# EAGLE library part PIC16F1454-I_SL (library SamacSys_Parts)
Microchip PIC16F1454-I/SL, 8bit PIC Microcontroller, 48MHz, 14 kB Flash, 14-Pin SOIC Source: Datasheet <https://datasheet.datasheetarchive.com/originals/distributors/Datasheets-DGA25/1726631.pdf>
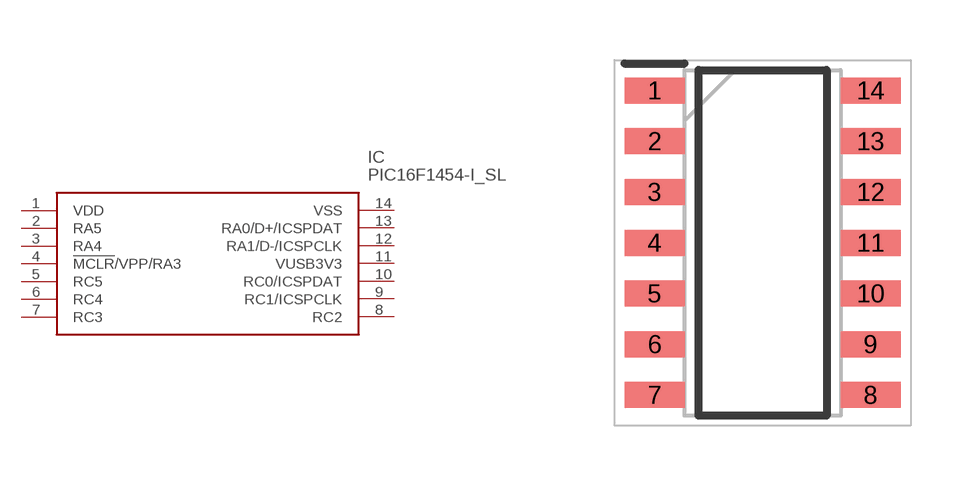
[diagram p80: symbol with the pads of SOIC127P600X175-14N; footprint SOIC127P600X175-14N]

Designator prefix IC

## PIC16F1454-I_SL (DESCRIPTION: Microchip PIC16F1454-I/SL, 8bit PIC Microcontroller, 48MHz, 14 kB Flash, 14-Pin SOIC; HEIGHT: 1.75mm; MANUFACTURER_NAME: Microchip; MANUFACTURER_PART_NUMBER: PIC16F1454-I/SL; MOUSER_PART_NUMBER: 579-PIC16F1454-I/SL; MOUSER_PRICE-STOCK: https://www.mouser.co.uk/ProductDetail/Microchip-Technology/PIC16F1454-I-SL?qs=ad%2F6A%2FMquwJC%2FYz9dG%252BKZg%3D%3D)  [SOIC127P600X175-14N]
1  VDD
2  RA5
3  RA4
4  !MCLR!/VPP/RA3
5  RC5
6  RC4
7  RC3
8  RC2
9  RC1/ICSPCLK
10  RC0/ICSPDAT
11  VUSB3V3
12  RA1/D-/ICSPCLK
13  RA0/D+/ICSPDAT
14  VSS

## Footprint SOIC127P600X175-14N (pad centres in mm)
14-Lead(SL) SOIC
smd 1.5 x 0.65: 1 -2.7,3.81; 2 -2.7,2.54; 3 -2.7,1.27; 4 -2.7,0; 5 -2.7,-1.27; 6 -2.7,-2.54; 7 -2.7,-3.81; 8 2.7,-3.81; 9 2.7,-2.54; 10 2.7,-1.27; 11 2.7,0; 12 2.7,1.27; 13 2.7,2.54; 14 2.7,3.81